# Altium footprint library fromST.PcbLib: 65 footprints (part 4 of 5)
Each footprint in its own frame and in the unit in brackets; x right, y up, seen from the top. Pads: shape width x height; smd on the part's side, far side on the other; paste and mask are expansions set on the pad; w line width, h text height; cw(c..) or ccw(c..) is an arc to the next point about the centre after c.
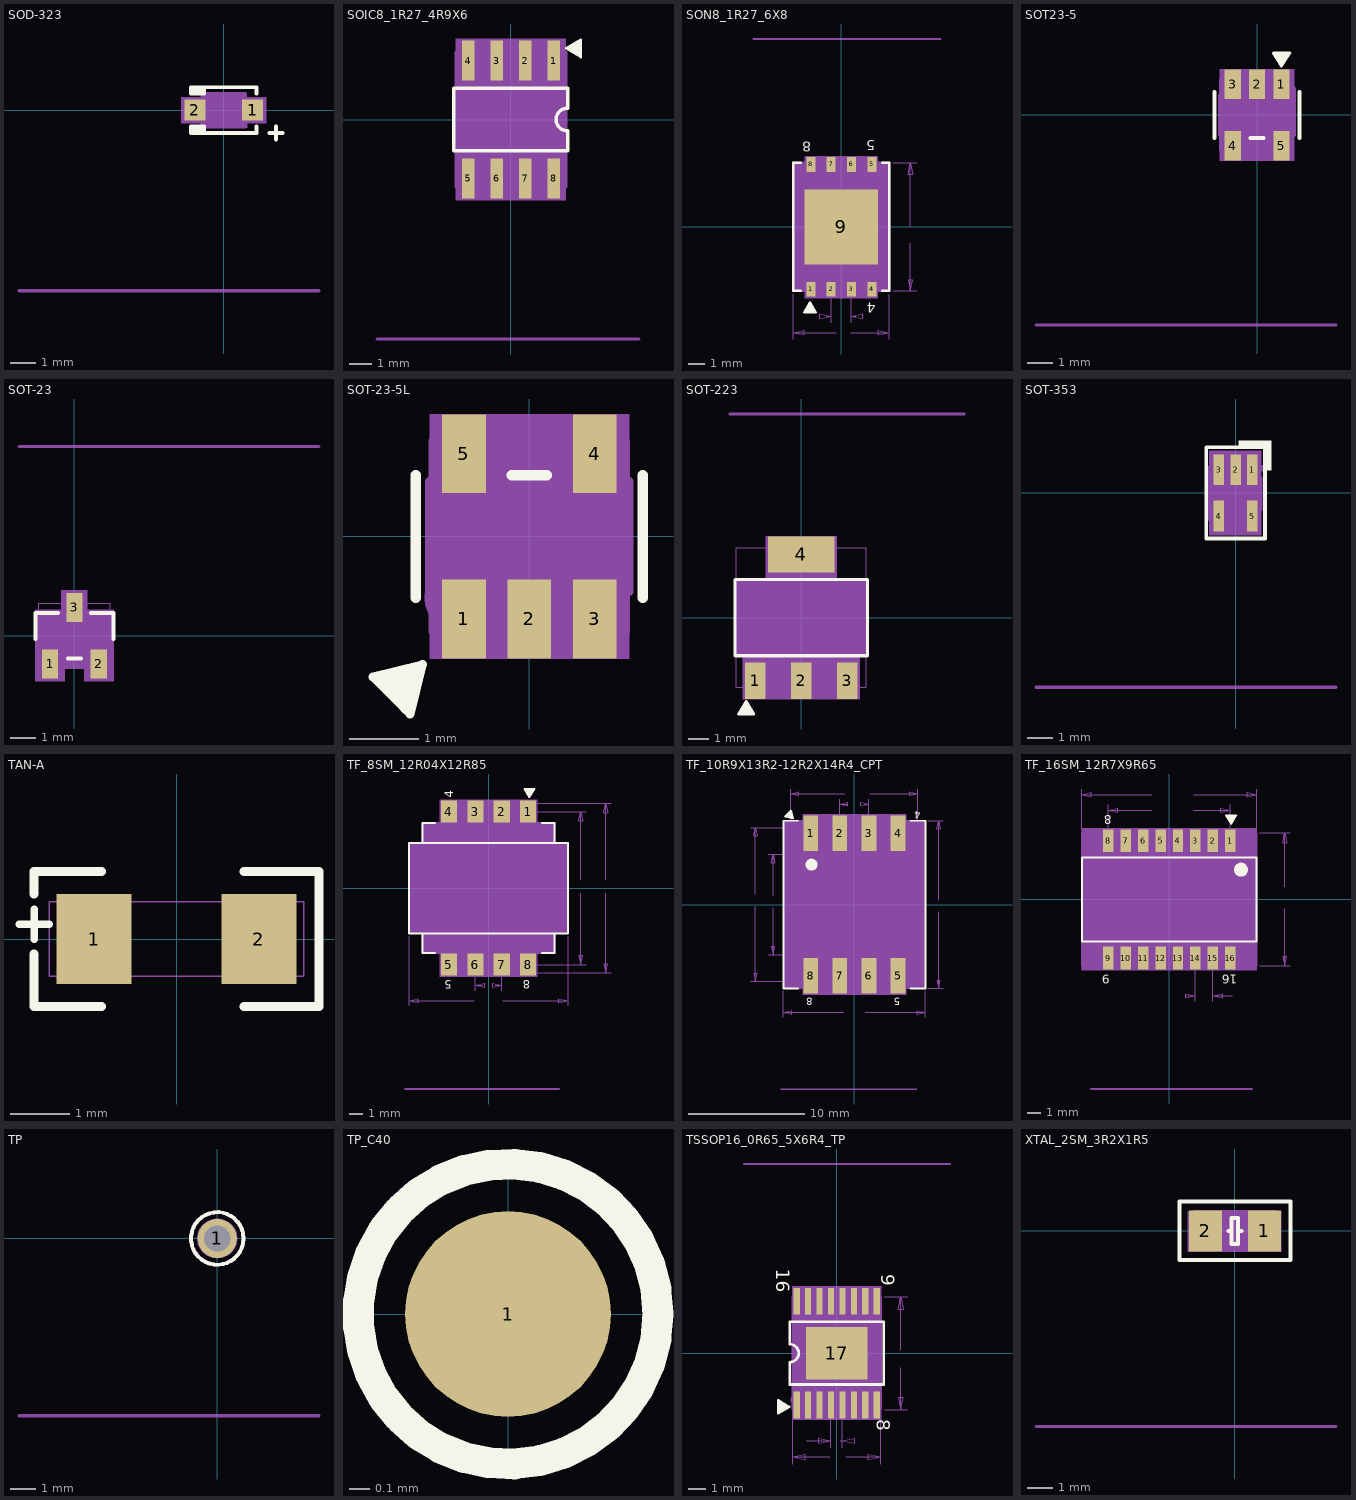
[diagram p3: the footprints below, top view; thin cyan lines are the x and y axes]

## SOD-323 [mil]
pads (2):
  rect 32x32 smd: 1(44.29,0) 2(-44.29,0)
Top Overlay:
  lines w6: -50,-30 -35,-30 -35,-25 -50,-25 ; -50,30 -35,30 -35,25 -50,25 ; 50,-25 50,-35 -50,-35 ; 50,25 50,35 -50,35 ; 70,-35 90,-35 ; 80,-45 80,-25 ; -50,-35 -50,-25 ; -50,-35 -30,-35 -30,-25 -50,-25 ; -50,-35 -50,-25 ; -50,25 -50,35 ; -50,25 -30,25 -30,35 -50,35 ; -50,25 -50,35
Mechanical 32:
  region: -34,25 -34,20 -65,20 -65,-20 -34,-20 -34,-27 36,-27 36,-20 65,-20 65,20 35,20 35,25
  pour cut-out: -15,-25 -15,25 -30,25 -30,-25
  lines w5: -314,-277 146,-277 ; -49.21,-5.91 -49.21,5.91 -33.46,5.91 -33.46,25.59 33.46,25.59 33.46,5.91 49.21,5.91 49.21,-5.91 33.46,-5.91 33.46,-25.59 -33.46,-25.59 -33.46,-5.91 -49.21,-5.91
  text "Remark: ***" at 116,-77 h25
  text "Rev   : B1" at 116,-117 h25
  text "Date  : 2007-11-28" at 116,-157 h25
  text "Creat : Sofer Tech" at 116,-197 h25
  text "Ref PN: ***" at 116,-237 h25
  text "Sofer Lib Information" at 146,-287 h25
  text "BAT46JFILM" at 130,85 h30
  text "SOD-323" at 79,85 h30
  text "Approved" at 122,10 h35
  text ".Designator" at 33,16.67 h35
  text "2" at -37.89,0 h16
  text "1" at 50.69,0 h16
3D body: height 150, standoff 0, extent -65,-27 65,25

## SOIC8_1R27_4R9X6 [mil]
pads (8):
  rect 22x70 smd: 1(75,103.3) 2(25,103.3) 3(-25,103.3) 4(-75,103.3) 5(-75,-103.3) 6(-25,-103.3) 7(25,-103.3) 8(75,-103.3)
Top Overlay:
  lines w5: 108.5,124 108.5,129 102.5,125 111.5,119 111.5,130 114.5,132 114.5,117 118.5,115 118.5,135 122.5,135 122.5,140 ; 122.5,140 122.5,110 97.5,125 122.5,140
  lines w6: -100,-55 100,-55 100,-20 cw(c99.37,0) 100,20 100,55 -100,55 -100,-55
  text ".Designator" at 140,10 h34
Mechanical 32:
  circle w20: c70,90 r10
  region: -96.46,141.3 96.45,141.3 96.45,-141.3 -96.46,-141.3
  pour cut-out: -96.46,141.3 96.45,141.3 96.45,-141.3 -96.46,-141.3
  lines w1: -96.46,-118.11 96.46,-118.11 96.46,118.11 -96.46,118.11 -96.46,-118.11
  lines w5: -235,-385 225,-385 ; 95,-24.99 cw(c98.13,0) 95,24.99 ; -96.46,-118.11 -96.46,118.11 96.46,118.11 96.46,-118.11 -96.46,-118.11
  text "4" at -75,114.7 h16
  text "5" at -75,-86.9 h16
  text "7" at 25,-86.9 h16
  text "6" at -25,-86.9 h16
  text "2" at 25,114.7 h16
  text "1" at 75,114.7 h16
  text "8" at 75,-86.9 h16
  text "3" at -25,114.7 h16
  text "Creat : Yuki" at 195,-305 h25
  text "Sofer Lib Information" at 225,-395 h25
  text "Ref PN: AD820BR" at 195,-345 h25
  text "Date  : 2011-01-14" at 195,-265 h25
  text "Rev   : C1" at 195,-225 h25
  text "Remark: ADD INSIDE PAD LENGTH" at 195,-185 h25
  text "Approved" at -5,117 h34
  text "SOIC8_1R27_4R9X6" at 15,402 h30
  text "ST890CDR" at 20,316 h30
3D body: height 150, standoff 0, extent -96.46,-141.3 96.45,141.3

## SON8_1R27_6X8 [mil]
pads (9):
  rect 22x36 smd: 1(-75,-153.54) 2(-25,-153.54) 3(25,-153.54) 4(75,-153.54) 5(75,153.54) 6(25,153.54) 7(-25,153.54) 8(-75,153.54)
  rect 181x185 smd: 9(0,0)
Top Overlay:
  lines w5: -78,-196.5 -73,-196.5 -77,-190.5 -83,-199.5 -72,-199.5 -70,-202.5 -85,-202.5 -87,-206.5 -67,-206.5 -67,-210.5 -62,-210.5 ; -62,-210.5 -92,-210.5 -77,-185.5 -62,-210.5
  lines w6: -100,-157.48 -118.11,-157.48 -118.11,157.48 -100,157.48 ; 100,-157.48 118.11,-157.48 118.11,157.48 100,157.48
  text ".Designator" at 40,-244.56 h30
  text "4" at 85,-186.56 h25
  text "5" at 84,212.44 h25
  text "8" at -74,209.44 h25
Mechanical 32:
  circle w20: c-75,-140 r10
  pour cut-out: 119,-160 119,160 90,160 90,174 -90,174 -90,160 -120,160 -120,-160 -90,-160 -90,-175 90,-175 90,-160
  region: 119,-160 119,160 90,160 90,174 -90,174 -90,160 -120,160 -120,-160 -90,-160 -90,-175 90,-175 90,-160
  lines w1: -118.11,-275.75 -118.11,-165.35 ; -36,-220 -25,-220 ; -25,-235.75 -25,-161.42 ; -13,-260 -118.11,-260 ; 23,-260 118.11,-260 ; 25,-235.75 25,-161.42 ; 36,-220 25,-220 ; 118.11,-275.75 118.11,-165.35 ; 125.98,-157.48 185.75,-157.48 ; 125.98,157.48 185.75,157.48 ; 170,-40 170,-157.48 ; 170,0 170,157.48 ; -118.11,-260 -90.55,-254.09 -90.55,-265.91 -118.11,-260 ; -25,-220 -52.56,-225.91 -52.56,-214.09 -25,-220 ; 25,-220 52.56,-214.09 52.56,-225.91 25,-220 ; 118.11,-260 90.55,-265.91 90.55,-254.09 118.11,-260 ; 170,-157.48 164.09,-129.92 175.91,-129.92 170,-157.48 ; 170,157.48 175.91,129.92 164.09,129.92 170,157.48
  lines w5: -216,462 244,462 ; -118.11,-157.48 118.11,-157.48 118.11,157.48 -118.11,157.48 -118.11,-157.48
  text "4" at 81.4,-153.54 h16
  text "9" at 7.8,5 h16
  text "8" at -68.6,153.54 h16
  text "3" at 31.4,-153.54 h16
  text "5" at 81.4,153.54 h16
  text "2" at -18.6,-153.54 h16
  text "7" at -18.6,153.54 h16
  text "6" at 31.4,153.54 h16
  text "1" at -68.6,-153.54 h16
  text "SON8_1R27_6X8" at 171,-360 h30
  text "MX25L51245G (MACRONIX)" at 269,-360 h30
  text "Sofer Lib Information" at -216,472 h25
  text "Ref PN: MX25L51245G" at -186,422 h25
  text "Creat : Ziv" at -186,382 h25
  text "Date  : 2016-02-17" at -186,342 h25
  text "Rev   : A1" at -186,302 h25
  text "Remark: D031-019A2" at -186,262 h25
  text "NO" at 28,0 h35
  text "1.27" at -24,-228 h16
  text "6" at -1,-268 h16
  text "8" at 164,-28 h16
3D body: height 150, standoff 0, extent -120,-175 119,174

## SOT23-5 [mil]
pads (5):
  rect 25x45 smd: 1(37.4,47.24) 2(0,47.24) 3(-37.4,47.24) 4(-37.4,-47.24) 5(37.4,-47.24)
Top Overlay:
  lines w5: 38,86.5 33,86.5 37,80.5 43,89.5 32,89.5 30,92.5 45,92.5 50,95 ; 25,95 50,95 ; 25,95 37,75.5 50,95 ; 25,95 50,95
  lines w6: -65,-35 -65,35 ; -10,-35 10,-35 ; 65,-35 65,-10 65,10 65,35
Mechanical 32:
  circle w20: c40,35 r10
  pour cut-out: -57.09,70 -57.09,-70 57.09,-70 57.09,70
  region: -57.09,70 -57.09,-70 57.09,-70 57.09,70
  lines w1: -57.09,-55.12 -57.09,55.12 57.09,55.12 57.09,-55.12 -57.09,-55.12
  lines w5: -339,-322 121,-322 ; -57.09,-31.5 57.09,-31.5 ; -57.09,-30 -57.09,30 ; -57.09,31.5 57.09,31.5 ; -46,-55.12 -29,-55.12 ; -46,-55 -46,-35 ; -46,35 -46,55 ; -46,55.12 -29,55.12 ; -29,-55 -29,-35 ; -29,35 -29,55 ; -8.5,34 -8.5,54 ; -8,55.12 8,55.12 ; 8.5,34 8.5,54 ; 29,-55.12 46,-55.12 ; 29,-55 29,-35 ; 29,34 29,54 ; 29,55.12 46,55.12 ; 46,-55 46,-35 ; 46,34 46,54 ; 57.09,-30 57.09,30
  text ".Designator" at 36,15 h30
  text "SOT23-5" at 94,160 h30
  text "Sofer Lib Information" at 121,-332 h25
  text "Ref PN: ***" at 91,-282 h25
  text "Creat : Sofer Tech" at 91,-242 h25
  text "Date  : 2007-11-01" at 91,-202 h25
  text "Rev   : A1" at 91,-162 h25
  text "Remark: ***" at 91,-122 h25
  text "Approved" at 112,0 h35
  text "1" at 43.8,47.24 h16
  text "5" at 43.8,-47.24 h16
  text "3" at -31,47.24 h16
  text "4" at -31,-47.24 h16
  text "2" at 6.4,47.24 h16
3D body: height 150, standoff 0, extent -57.09,-70 57.09,70

## SOT-23 [mil]
pads (3):
  rect 25x45 smd: 1(-37.4,-43.31) 2(37.4,-43.31) 3(0,43.31)
Top Overlay:
  lines w6: -60,-5 -60,35 -25,35 ; -10,-35 10,-35 ; 25,35 60,35 60,-5
  text ".Designator" at 140,10 h30
Mechanical 32:
  region: -60,-70 -15,-70 -15,-50 15,-50 15,-70 60,-70 60,40 20,40 20,70 -20,70 -20,40 -60,40
  lines w1: -55,-50 55,-50 55,50 -55,50 -55,-50
  lines w5: -85,290 375,290
  lines w6: -45,-25 -45,-50 -30,-50 -30,-25 ; -10,25 -10,50 10,50 10,25 ; 30,-25 30,-50 45,-50 45,-25 ; -55,-25 55,-25 55,25 -55,25 -55,-25
  text "2" at 43.8,-43.31 h16
  text "1" at -31,-43.31 h16
  text "3" at 6.4,43.31 h16
  text "9013-SOT23" at 110,-110 h30
  text "Approved" at 112,0 h35
  text "SOT-23" at 79,-115 h35
  text "Sofer Lib Information" at -85,300 h25
  text "Remark: Updated pin size by Jacky" at -55,90 h25
  text "Rev   : B2" at -55,130 h25
  text "Date  : 2009-09-28" at -55,170 h25
  text "Creat : Sofer Tech" at -55,210 h25
  text "Ref PN: ***" at -55,250 h25
3D body: height 150, standoff 0, extent -60,-70 60,70

## SOT-23-5L [mil]
pads (5):
  rect 25x45 smd: 1(-37.4,-47.24) 2(0,-47.24) 3(37.4,-47.24) 4(37.4,47.24) 5(-37.4,47.24)
Top Overlay:
  lines w5: -69.65,-80.4 -66.11,-83.94 -64.7,-76.87 -75.3,-78.99 -67.53,-86.77 -68.23,-90.3 -78.84,-79.7 -83.08,-81.11 -68.94,-95.25 -71.77,-98.08 -68.23,-101.62 ; -68.23,-101.62 -89.45,-80.4 -61.16,-73.33 -68.23,-101.62
  lines w6: -65,-35 -65,-10 -65,10 -65,35 ; -10,35 10,35 ; 65,-35 65,35
  text ".Designator" at -20,95 h34
Mechanical 32:
  circle w20: c-40,-35 r10
  pour cut-out: 57.09,-70 57.09,70 -57.09,70 -57.09,-70
  region: 57.09,-70 57.09,70 -57.09,70 -57.09,-70
  lines w1: -57.09,-55.12 57.09,-55.12 57.09,55.12 -57.09,55.12 -57.09,-55.12
  lines w5: -57.09,-31.5 57.09,-31.5 ; -57.09,-30 -57.09,30 ; -57.09,31.5 57.09,31.5 ; -46,-55.12 -29,-55.12 ; -46,-54 -46,-34 ; -46,35 -46,55 ; -46,55.12 -29,55.12 ; -29,-54 -29,-34 ; -29,35 -29,55 ; -8.5,-54 -8.5,-34 ; -8,-55.12 8,-55.12 ; 8.5,-54 8.5,-34 ; 29,-55.12 46,-55.12 ; 29,-55 29,-35 ; 29,35 29,55 ; 29,55.12 46,55.12 ; 46,-55 46,-35 ; 46,35 46,55 ; 57.09,-30 57.09,30
  text "2" at -6.4,-57.24 h16
  text "4" at 36,32.24 h16
  text "1" at -43.8,-57.24 h16
  text "3" at 31,-57.24 h16
  text "5" at -38.8,32.24 h16
3D body: height 150, standoff 0, extent -57.09,-70 57.09,70

## SOT-223 [mil]
pads (4):
  rect 40x71 smd: 1(-90.55,-124.02) 2(0,-124.02) 3(90.55,-124.02)
  rect 130x71 smd: 4(0,124.02)
Top Overlay:
  lines w5: -109.2,-175.47 -104.2,-175.47 -108.2,-169.47 -114.2,-178.47 -103.2,-178.47 -101.2,-181.47 -116.2,-181.47 -118.2,-185.47 -98.2,-185.47 -98.2,-189.47 -93.2,-189.47 ; -93.2,-189.47 -123.2,-189.47 -108.2,-164.47 -93.2,-189.47
  lines w6: -130,-75 130,-75 130,75 -130,75 -130,70 -130,-75
Mechanical 32:
  circle w20: c-90,-45 r10
  region: -115,-160 115,-160 115,-85 115,-80 115,-75 127.95,-75 127.95,75 70,75 70,80 70,160 -70,160 -70,80 -70,75 -127.95,75 -127.95,-75 -115,-75 -115,-80
  lines w1: -127.95,-137.01 127.95,-137.01 127.95,137.01 -127.95,137.01 -127.95,-137.01
  lines w5: -140,400 320,400 ; -127.95,70 -127.95,70.08 ; -105,-70 -105,-135 -75,-135 -75,-70 ; -55,70 -55,145 55,145 55,70 ; -15,-70 -15,-135 15,-135 15,-70 ; 80,-70 75,-70 75,-135 105,-135 105,-70 ; -127.95,70.08 127.95,70.08 127.95,-70.08 -127.95,-70.08 -127.95,70.08 ; -75,-70 -80,-70 -75,-70
  text "2" at 0,-117.62 h16
  text "4" at 0,130.42 h16
  text "1" at -90.55,-117.62 h16
  text "3" at 90.55,-117.62 h16
  text ".Designator" at 0,8 h35
  text "Creat : Sofer Tech" at -110,320 h25
  text "Sofer Lib Information" at -140,410 h25
  text "Ref PN: LM1117S" at -110,360 h25
  text "Date  : 2007-**-**" at -110,280 h25
  text "Rev   : A1" at -110,240 h25
  text "Remark: ***" at -110,200 h25
  text "Approved" at 0,112 h35
  text "SOT-223" at 25,-121 h30
  text "STN4NF20L" at 10,93 h30
3D body: height 150, standoff 0, extent -127.95,-160 127.95,160

## SOT-353 [mil]
pads (5):
  rect 16x47 smd: 1(25.59,35.43) 2(0,35.43) 3(-25.59,35.43) 4(-25.59,-35.43) 5(25.59,-35.43)
Top Overlay:
  pour cut-out: 45,35 55,35 55,80 5,80 5,70 45,70
  lines w6: -45,-70 -45,70 45,70 45,-70 -45,-70
  text ".Designator" at 64,56 h34
Mechanical 32:
  circle w3.94: c41,38 r2.83
  region: 39.37,65 -40,65 -40,-65 39.37,-65
  pour cut-out: 39.37,65 -40,65 -40,-65 39.37,-65
  lines w1: -41,-42 -41,41 39,41 39,-42 -41,-42
  lines w3.94: -32,-26 -32,-41.83 -20,-41.83 ; -32,24 -32,40 ; -32,40.83 -20,40.83 -20,24 ; -20,-41 -20,-26 ; -6,24 -6,40 ; -6,40.83 6,40.83 6,24 ; 19.18,-26 19.18,-41.83 31.18,-41.83 ; 20,25 20,40 ; 20,40.83 32,40.83 32,24 ; 31.18,-40.83 31.18,-26 ; -41,-25.61 -41,23.61 39,23.61 39,-25.61 -41,-25.61
  lines w5: -306,-298 154,-298
  text "SOT-353" at -89,163 h30
  text "Sofer Lib Information" at 154,-308 h25
  text "Ref PN: ESDALC6V1W5" at 124,-258 h25
  text "Creat : Yuki" at 124,-218 h25
  text "Date  : 2007-11-30" at 124,-178 h25
  text "Rev   : A1" at 124,-138 h25
  text "Remark: ***" at 124,-98 h25
  text "Approved" at -112,0 h35
  text "74LVC1G04SE" at -139,165 h30
  text "4" at -31.99,-35.43 h16
  text "1" at 19.19,35.43 h16
  text "5" at 19.19,-35.43 h16
  text "2" at -6.4,35.43 h16
  text "3" at -31.99,35.43 h16
3D body: height 150, standoff 0, extent -40,-65 39.37,65

## TAN-A [mil]
pads (2):
  rect 50x60 smd: 1(-55,0) 2(55,0)
Top Overlay:
  lines w5: -105,10 -85,10 ; -95,0 -95,20
  lines w6: -95,-10 -95,-45 -50,-45 ; -95,30 -95,45 -50,45 ; 45,-45 95,-45 95,45 45,45
Mechanical 32:
  lines w1: -85,-25 -85,25 ; -85,-25 85,-25 ; -85,-25 -85,25 ; -85,-25 85,-25 ; -85,25 85,25 ; -85,25 85,25 ; 85,-25 85,25 ; 85,-25 85,25
  text ".Designator" at 98,-106 h60
  text "2" at 55,6.4 h16
  text "1" at -55,6.4 h16

## TF_8SM_12R04X12R85 [mil]
pads (8):
  rect 48x66 smd: 1(118.11,227.95) 2(39.37,227.95) 3(-39.37,227.95) 4(-118.11,227.95) 5(-118.11,-227.95) 6(-39.37,-227.95) 7(39.37,-227.95) 8(118.11,-227.95)
Top Overlay:
  lines w5: 123,281.5 118,281.5 122,275.5 128,284.5 117,284.5 115,287.5 130,287.5 132,291.5 112,291.5 112,295.5 107,295.5 ; 107,295.5 137,295.5 122,270.5 107,295.5
  lines w6: -196.85,-134.84 -196.85,-193.9 -160,-193.9 ; -196.85,134.84 -196.85,193.9 -160,193.9 ; 160,-193.9 196.85,-193.9 196.85,-134.84 ; 160,193.9 196.85,193.9 196.85,134.84 ; -237.01,-134.84 237.01,-134.84 237.01,134.84 -237.01,134.84 -237.01,-134.84
  text "4" at -105,270 h25
  text "5" at -110,-275 h25
  text "8" at 125,-275 h25
Mechanical 32:
  circle w20: c115,225 r10
  region: 145,264 145,195 195,195 195,135 235,135 235,-135 195,-135 195,-195 145,-195 145,-264 -145,-264 -145,-195 -195,-195 -195,-135 -235,-135 -235,135 -195,135 -195,195 -145,195 -145,264
  lines w1: -237.01,-350.75 -237.01,-142.72 ; -42,-335 -237.01,-335 ; -39.37,-305.75 -39.37,-235.83 ; -18,-290 -39.37,-290 ; 18,-290 39.37,-290 ; 39.37,-305.75 39.37,-235.83 ; 42,-335 237.01,-335 ; 125.98,-227.95 290.75,-227.95 ; 125.98,227.95 290.75,227.95 ; 141.93,-252.95 365.75,-252.95 ; 141.93,252.95 365.75,252.95 ; 237.01,-350.75 237.01,-142.72 ; 275,-15 275,-227.95 ; 275,25 275,227.95 ; 350,-15 350,-252.95 ; 350,25 350,252.95 ; -237.01,-335 -209.45,-329.09 -209.45,-340.91 -237.01,-335 ; -39.37,-290 -11.81,-284.09 -11.81,-295.91 -39.37,-290 ; 39.37,-290 11.81,-295.91 11.81,-284.09 39.37,-290 ; 237.01,-335 209.45,-340.91 209.45,-329.09 237.01,-335 ; 275,-227.95 269.09,-200.39 280.91,-200.39 275,-227.95 ; 275,227.95 280.91,200.39 269.09,200.39 275,227.95 ; 350,-252.95 344.09,-225.39 355.91,-225.39 350,-252.95 ; 350,252.95 355.91,225.39 344.09,225.39 350,252.95
  lines w5: -249.84,-598.74 210.16,-598.74 ; -196.85,-134.84 -196.85,-193.9 196.85,-193.9 196.85,-134.84 ; -196.85,134.84 -196.85,193.9 196.85,193.9 196.85,134.84 ; -134.06,-193.9 -134.06,-252.95 134.06,-252.95 134.06,-193.9 ; -134.06,193.9 -134.06,252.95 134.06,252.95 134.06,193.9 ; -237.01,-134.84 237.01,-134.84 237.01,134.84 -237.01,134.84 -237.01,-134.84
  text "5" at -118.11,-221.55 h16
  text "6" at -39.37,-221.55 h16
  text "4" at -118.11,234.35 h16
  text "3" at -39.37,234.35 h16
  text "2" at 39.37,234.35 h16
  text "1" at 118.11,234.35 h16
  text "7" at 39.37,-221.55 h16
  text "8" at 118.11,-221.55 h16
  text "Sofer Lib Information" at 210.16,-608.74 h25
  text "Ref PN: 750315923" at 180.16,-558.74 h25
  text "Creat : Ziv" at 180.16,-518.74 h25
  text "Date  : 2016-02-16" at 180.16,-478.74 h25
  text "Rev   : A1" at 180.16,-438.74 h25
  text "Remark: D031-019A2" at 180.16,-398.74 h25
  text "TF_8SM_12R04X12R85" at -18.66,588.57 h30
  text "POE30P50L" at -45.96,488.24 h30
  text ".Designator" at 0,84 h40
  text "NO" at 0,28 h35
  text "2" at 6,-282 h16
  text "11.58" at 305,13 h16
  text "12.04" at 30,-327 h16
  text "12.85" at 380,13 h16
3D body: height 150, standoff 0, extent -235,-264 235,264

## TF_10R9X13R2-12R2X14R4_CPT [mil]
pads (8):
  rect 50x120 smd: 1(-147.64,240.79) 2(-49.21,240.79) 3(49.21,240.79) 4(147.64,240.79) 5(147.64,-240.79) 6(49.21,-240.79) 7(-49.21,-240.79) 8(-147.64,-240.79)
Top Overlay:
  circle w20: c-145,135 r10
  lines w5: -214.23,298.89 -217.77,295.35 -210.7,293.94 -212.82,304.55 -220.6,296.77 -224.13,297.47 -213.53,308.08 -214.94,312.32 -229.08,298.18 -231.91,301.01 -235.45,297.47 ; -235.45,297.47 -214.23,318.69 -207.16,290.4 -235.45,297.47
  lines w6: -190,-283.46 -240.16,-283.46 -240.16,283.46 -190,283.46 ; 190,-283.46 240.16,-283.46 240.16,283.46 190,283.46
  text ".Designator" at 279,-280 h30
  text "4" at 224,315 h25
  text "5" at 155,-315 h25
  text "8" at -140,-315 h25
Mechanical 32:
  circle w20: c-150,230 r10
  region: 240,-285 175,-285 175,-305 -175,-305 -175,-285 -240,-285 -240,285 -175,285 -175,305 175,305 175,285 240,285
  lines w1: -350.75,-260.04 -169.29,-260.04 ; -350.75,260.04 -169.29,260.04 ; -335,-5 -335,-260.04 ; -335,35 -335,260.04 ; -290.75,-169.29 -222.83,-169.29 ; -290.75,169.29 -222.83,169.29 ; -275,-10 -275,-169.29 ; -275,30 -275,169.29 ; -240.16,-380.75 -240.16,-291.34 ; -214.96,177.17 -214.96,390.75 ; -49.21,232.91 -49.21,355.75 ; -36,-365 -240.16,-365 ; -32,375 -214.96,375 ; -25,340 -49.21,340 ; 35,340 49.21,340 ; 36,-365 240.16,-365 ; 49.21,232.91 49.21,355.75 ; 52,375 214.96,375 ; 214.96,177.17 214.96,390.75 ; 240.16,-380.75 240.16,-291.34 ; 248.03,-283.46 300.75,-283.46 ; 248.03,283.46 300.75,283.46 ; 285,-25 285,-283.46 ; 285,15 285,283.46 ; -335,-260.04 -340.91,-232.48 -329.09,-232.48 -335,-260.04 ; -335,260.04 -329.09,232.48 -340.91,232.48 -335,260.04 ; -275,-169.29 -280.91,-141.73 -269.09,-141.73 -275,-169.29 ; -275,169.29 -269.09,141.73 -280.91,141.73 -275,169.29 ; -240.16,-365 -212.6,-359.09 -212.6,-370.91 -240.16,-365 ; -214.96,375 -187.4,380.91 -187.4,369.09 -214.96,375 ; -49.21,340 -21.65,345.91 -21.65,334.09 -49.21,340 ; 49.21,340 21.65,334.09 21.65,345.91 49.21,340 ; 214.96,375 187.4,369.09 187.4,380.91 214.96,375 ; 240.16,-365 212.6,-370.91 212.6,-359.09 240.16,-365 ; 285,-283.46 279.09,-255.91 290.91,-255.91 285,-283.46 ; 285,283.46 290.91,255.91 279.09,255.91 285,283.46
  lines w5: -249.84,-623.74 210.16,-623.74 ; -161.42,-169.29 161.42,-169.29 ; -161.42,-169.29 -161.42,-260.04 161.42,-260.04 161.42,-169.29 ; -161.42,-169.29 -214.96,-169.29 -214.96,169.29 -161.42,169.29 ; -161.42,169.29 -161.42,260.04 161.42,260.04 161.42,169.29 ; -161.42,169.29 161.42,169.29 ; 161.42,-169.29 214.96,-169.29 214.96,169.29 161.42,169.29
  text "8" at -147.64,-234.39 h16
  text "7" at -49.21,-234.39 h16
  text "1" at -147.64,247.19 h16
  text "2" at -49.21,247.19 h16
  text "3" at 49.21,247.19 h16
  text "4" at 147.64,247.19 h16
  text "6" at 49.21,-234.39 h16
  text "5" at 147.64,-234.39 h16
  text "Sofer Lib Information" at 210.16,-633.74 h25
  text "Ref PN: POE30P" at 180.16,-583.74 h25
  text "Creat : Ziv" at 180.16,-543.74 h25
  text "Date  : 2016-02-16" at 180.16,-503.74 h25
  text "Rev   : A1" at 180.16,-463.74 h25
  text "Remark: D031-019A2" at 180.16,-423.74 h25
  text "TF_8SM_10R92X13R21-12R2X14R4_CPT" at -8.66,856.57 h30
  text "POE30P50L" at -35.96,588.24 h30
  text "NO" at 0,28 h35
  text "2.5" at 23,348 h16
  text "10.92" at 40,383 h16
  text "13.21" at -305,23 h16
  text "8.6" at -257,18 h16
  text "12.2" at 24,-357 h16
  text "14.4" at 309,3 h16
3D body: height 150, standoff 0, extent -240,-305 240,305

## TF_16SM_12R7X9R65 [mil]
pads (16):
  rect 30x65 smd: 1(175,167.52) 2(125,167.52) 3(75,167.52) 4(25,167.52) 5(-25,167.52) 6(-75,167.52) 7(-125,167.52) 8(-175,167.52) 9(-175,-167.52) 10(-125,-167.52) 11(-75,-167.52) 12(-25,-167.52) 13(25,-167.52) 14(75,-167.52) 15(125,-167.52) 16(175,-167.52)
Top Overlay:
  circle w20: c205,85 r10
  lines w5: 178,226.5 173,226.5 177,220.5 183,229.5 172,229.5 170,232.5 185,232.5 187,236.5 167,236.5 167,240.5 162,240.5 ; 162,240.5 192,240.5 177,215.5 162,240.5
  lines w6: -250,-120 250,-120 250,120 -250,120 -250,-120
  text "8" at -165,240 h25
  text "9" at -170,-215 h25
  text "16" at 195,-215 h25
Mechanical 32:
  circle w20: c175,165 r10
  region: 250,203 250,-203 -250,-203 -250,203
  lines w1: -250,197.83 -250,315.75 ; -175,175.39 -175,270.75 ; -49.75,255 -175,255 ; -49.75,300 -250,300 ; 49.75,-275 75,-275 ; 69.75,255 175,255 ; 69.75,300 250,300 ; 75,-290.75 75,-175.39 ; 125,-290.75 125,-175.39 ; 175,175.39 175,270.75 ; 180.12,-275 125,-275 ; 250,197.83 250,315.75 ; 257.87,-189.96 345.75,-189.96 ; 257.87,189.96 345.75,189.96 ; 330,-26.25 330,-189.96 ; 330,36.25 330,189.96 ; -250,300 -222.44,305.91 -222.44,294.09 -250,300 ; -175,255 -147.44,260.91 -147.44,249.09 -175,255 ; 75,-275 47.44,-280.91 47.44,-269.09 75,-275 ; 125,-275 152.56,-269.09 152.56,-280.91 125,-275 ; 175,255 147.44,249.09 147.44,260.91 175,255 ; 250,300 222.44,294.09 222.44,305.91 250,300 ; 330,-189.96 324.09,-162.4 335.91,-162.4 330,-189.96 ; 330,189.96 335.91,162.4 324.09,162.4 330,189.96
  lines w5: -223.76,-542.04 236.24,-542.04 ; -250,-189.96 250,-189.96 250,189.96 -250,189.96 -250,-189.96
  text "2" at 125,177.52 h25
  text "7" at -125,177.52 h25
  text "9" at -175,-157.52 h25
  text "11" at -75,-147.52 h25
  text "14" at 75,-147.52 h25
  text "16" at 175,-147.52 h25
  text "8" at -175,177.52 h25
  text "6" at -75,177.52 h25
  text "3" at 75,177.52 h25
  text "1" at 175,177.52 h25
  text "10" at -125,-147.52 h25
  text "15" at 125,-147.52 h25
  text "13" at 25,-147.52 h25
  text "4" at 25,177.52 h25
  text "12" at -25,-147.52 h25
  text "5" at -25,177.52 h25
  text "H2019NL" at 0,444 h30
  text "Ref PN: P-RJHSE-338X" at 206.24,-502.04 h25
  text "Creat : Yuki" at 206.24,-462.04 h25
  text "Date  : 2012-03-19" at 206.24,-422.04 h25
  text "Rev   : A1" at 206.24,-382.04 h25
  text "Remark: D028-046A1" at 206.24,-342.04 h25
  text "Sofer Lib Information" at 236.24,-552.04 h25
  text ".Designator" at 0,47 h40
  text "NO" at 0,28 h35
  text "TF_16SM_12R7X9R65" at -5,564 h30
  text "1.27" at 31,-262.5 h25
  text "12.7" at 51,312.5 h25
  text "9.65" at 371,17.5 h25
  text "8.89" at 51,267.5 h25
3D body: height 150, standoff 0, extent -250,-203 250,203

## TP [mil]
pads (1):
  round 60 hole 40: 1(0,0)
Top Overlay:
  circle w6: c0,0 r40.31
Mechanical 32:
  circle w6: c0,0 r40.31
  pour cut-out: 30.67,0 29.63,-7.94 26.56,-15.34 21.69,-21.69 15.34,-26.56 7.94,-29.63 0,-30.67 -7.94,-29.63 -15.34,-26.56 -21.69,-21.69 -26.56,-15.34 -29.63,-7.94 -30.67,0 -29.63,7.94 -26.56,15.34 -21.69,21.69 -15.34,26.56 -7.94,29.63 0,30.67 7.94,29.63 15.34,26.56 21.69,21.69 26.56,15.34 29.63,7.94
  lines w5: -304,-272 156,-272
  text "Approved" at -112,0 h35
  text "Remark: ***" at 126,-72 h25
  text "Rev   : A1" at 126,-112 h25
  text "Date  : 2007-04-26" at 126,-152 h25
  text "Ref PN: ***" at 126,-232 h25
  text "Sofer Lib Information" at 156,-282 h25
  text "Creat : Sofer Tech" at 126,-192 h25
  text ".Designator" at -32,10 h20
  text "1" at -6.4,0 h16
3D body: height 150, standoff 0, extent -30.67,-30.67 30.67,30.67

## TP_C40 [mil]
pads (1):
  round 40 smd paste-100: 1(0,0)
Top Overlay:
  circle w6: c0,0 r29.15

## TSSOP16_0R65_5X6R4_TP [mil]
pads (17):
  rect 14x60 smd: 1(-89.57,-116.14) 2(-63.98,-116.14) 3(-38.39,-116.14) 4(-12.8,-116.14) 5(12.8,-116.14) 6(38.39,-116.14) 7(63.98,-116.14) 8(89.57,-116.14) 9(89.57,116.14) 10(63.98,116.14) 11(38.39,116.14) 12(12.8,116.14) 13(-12.8,116.14) 14(-38.39,116.14) 15(-63.98,116.14) 16(-89.57,116.14)
  rect 138x118 smd: 17(0,0)
Top Overlay:
  lines w5: -116.5,-119 -116.5,-124 -110.5,-120 -119.5,-114 -119.5,-125 -122.5,-127 -122.5,-112 -126.5,-110 -126.5,-130 -130.5,-130 -130.5,-135 ; -130.5,-135 -130.5,-105 -105.5,-120 -130.5,-135
  lines w6: -105,-70 105,-70 105,70 -105,70 -105,20 cw(c-105,0) -105,-20 -105,-70
  text ".Designator" at -1845,690 h34
  text "8" at 90,-148 h30
  text "9" at 100,177 h30
  text "16" at -135,189 h30
Mechanical 32:
  circle w20: c-83,-104 r10
  region: 99.57,-149.14 99.57,149.14 -99.56,149.14 -99.56,-149.14
  pour cut-out: 99.57,-149.14 99.57,149.14 -99.56,149.14 -99.56,-149.14
  lines w1: -98.43,-247.75 -98.43,-133.86 ; -67.91,-196 -12.8,-196 ; -16,-232 -98.43,-232 ; -12.8,-211.75 -12.8,-124.02 ; 8,-196 12.8,-196 ; 12.8,-211.75 12.8,-124.02 ; 20,-232 98.43,-232 ; 98.43,-247.75 98.43,-133.86 ; 106.3,-125.98 158.75,-125.98 ; 106.3,125.98 158.75,125.98 ; 143,-32 143,-125.98 ; 143,8 143,125.98 ; -98.43,-232 -70.87,-226.09 -70.87,-237.91 -98.43,-232 ; -12.8,-196 -40.35,-201.91 -40.35,-190.09 -12.8,-196 ; 12.8,-196 40.35,-190.09 40.35,-201.91 12.8,-196 ; 98.43,-232 70.87,-237.91 70.87,-226.09 98.43,-232 ; 143,-125.98 137.09,-98.43 148.91,-98.43 143,-125.98 ; 143,125.98 148.91,98.43 137.09,98.43 143,125.98 ; -98.43,-125.98 98.43,-125.98 98.43,125.98 -98.43,125.98 -98.43,-125.98
  lines w5: -207,423 253,423 ; -97,-24 ccw(c-103.89,0) -97,24 ; -98.43,-125.98 -98.43,125.98 98.43,125.98 98.43,-125.98 -98.43,-125.98
  text "9" at 89.57,122.54 h16
  text "1" at -89.57,-109.74 h16
  text "14" at -38.39,128.94 h16
  text "10" at 63.98,128.94 h16
  text "7" at 63.98,-109.74 h16
  text "2" at -63.98,-109.74 h16
  text "3" at -38.39,-109.74 h16
  text "13" at -12.8,128.94 h16
  text "4" at -12.8,-109.74 h16
  text "11" at 38.39,128.94 h16
  text "17" at 0,12.8 h16
  text "8" at 89.57,-109.74 h16
  text "15" at -63.98,128.94 h16
  text "16" at -89.57,128.94 h16
  text "5" at 12.8,-109.74 h16
  text "12" at 12.8,128.94 h16
  text "6" at 38.39,-109.74 h16
  text "TSSOP16_0R65_5X6R4_TP" at 17,-34 h30
  text "PM8800A" at -8,-204 h30
  text "Approved" at 0,112 h35
  text "Sofer Lib Information" at -207,433 h25
  text "Ref PN: ***" at -177,383 h25
  text "Creat : Sofer Tech" at -177,343 h25
  text "Date  : 2007-12-24" at -177,303 h25
  text "Rev   : B1" at -177,263 h25
  text "Remark: ***" at -177,223 h25
  text "0.65" at 52,-206 h16
  text "5" at -4,-240 h16
  text "6.4" at 125,-20 h16
3D body: height 150, standoff 0, extent -99.56,-149.14 99.57,149.14

## XTAL_2SM_3R2X1R5 [mil]
pads (2):
  rect 51x63 smd: 1(45.28,0) 2(-45.28,0)
Top Overlay:
  lines w6: -10,0 -5,0 ; 5,0 10,0 ; -85,-45 85,-45 85,45 -85,45 -85,-45 ; -5,-20 5,-20 5,20 -5,20 -5,-20
  text ".Designator" at -25,110 h34
Mechanical 32:
  region: 71,30 -72,30 -72,-32 71,-32
  pour cut-out: 71,30 -72,30 -72,-32 71,-32
  lines w1: -63,-30 -63,31 64,31 64,-30 -63,-30
  lines w5: -305,-300 155,-300 ; -62.99,-29.53 -62.99,29.53 62.99,29.53 62.99,-29.53 -62.99,-29.53
  text "2" at -45.28,-6.4 h16
  text "1" at 45.28,-6.4 h16
  text "XTAL_2SM_3R2X1R5" at -45,-92 h30
  text "NX3215SA-32.768K" at -5,-82 h30
  text "Sofer Lib Information" at 155,-310 h25
  text "Ref PN: FC-135" at 125,-260 h25
  text "Creat : Yuki" at 125,-220 h25
  text "Date  : 2008-04-02" at 125,-180 h25
  text "Rev   : A1" at 125,-140 h25
  text "Remark: 32.768KHz" at 125,-100 h25
  text "OK" at -10,-11.33 h35
3D body: height 150, standoff 0, extent -72,-32 71,30